# Altium footprint library SOT.PcbLib: 22 footprints (part 1 of 2)
Each footprint in its own frame and in the unit in brackets; x right, y up, seen from the top. Pads: shape width x height; smd on the part's side, far side on the other; paste and mask are expansions set on the pad; w line width, h text height; cw(c..) or ccw(c..) is an arc to the next point about the centre after c.
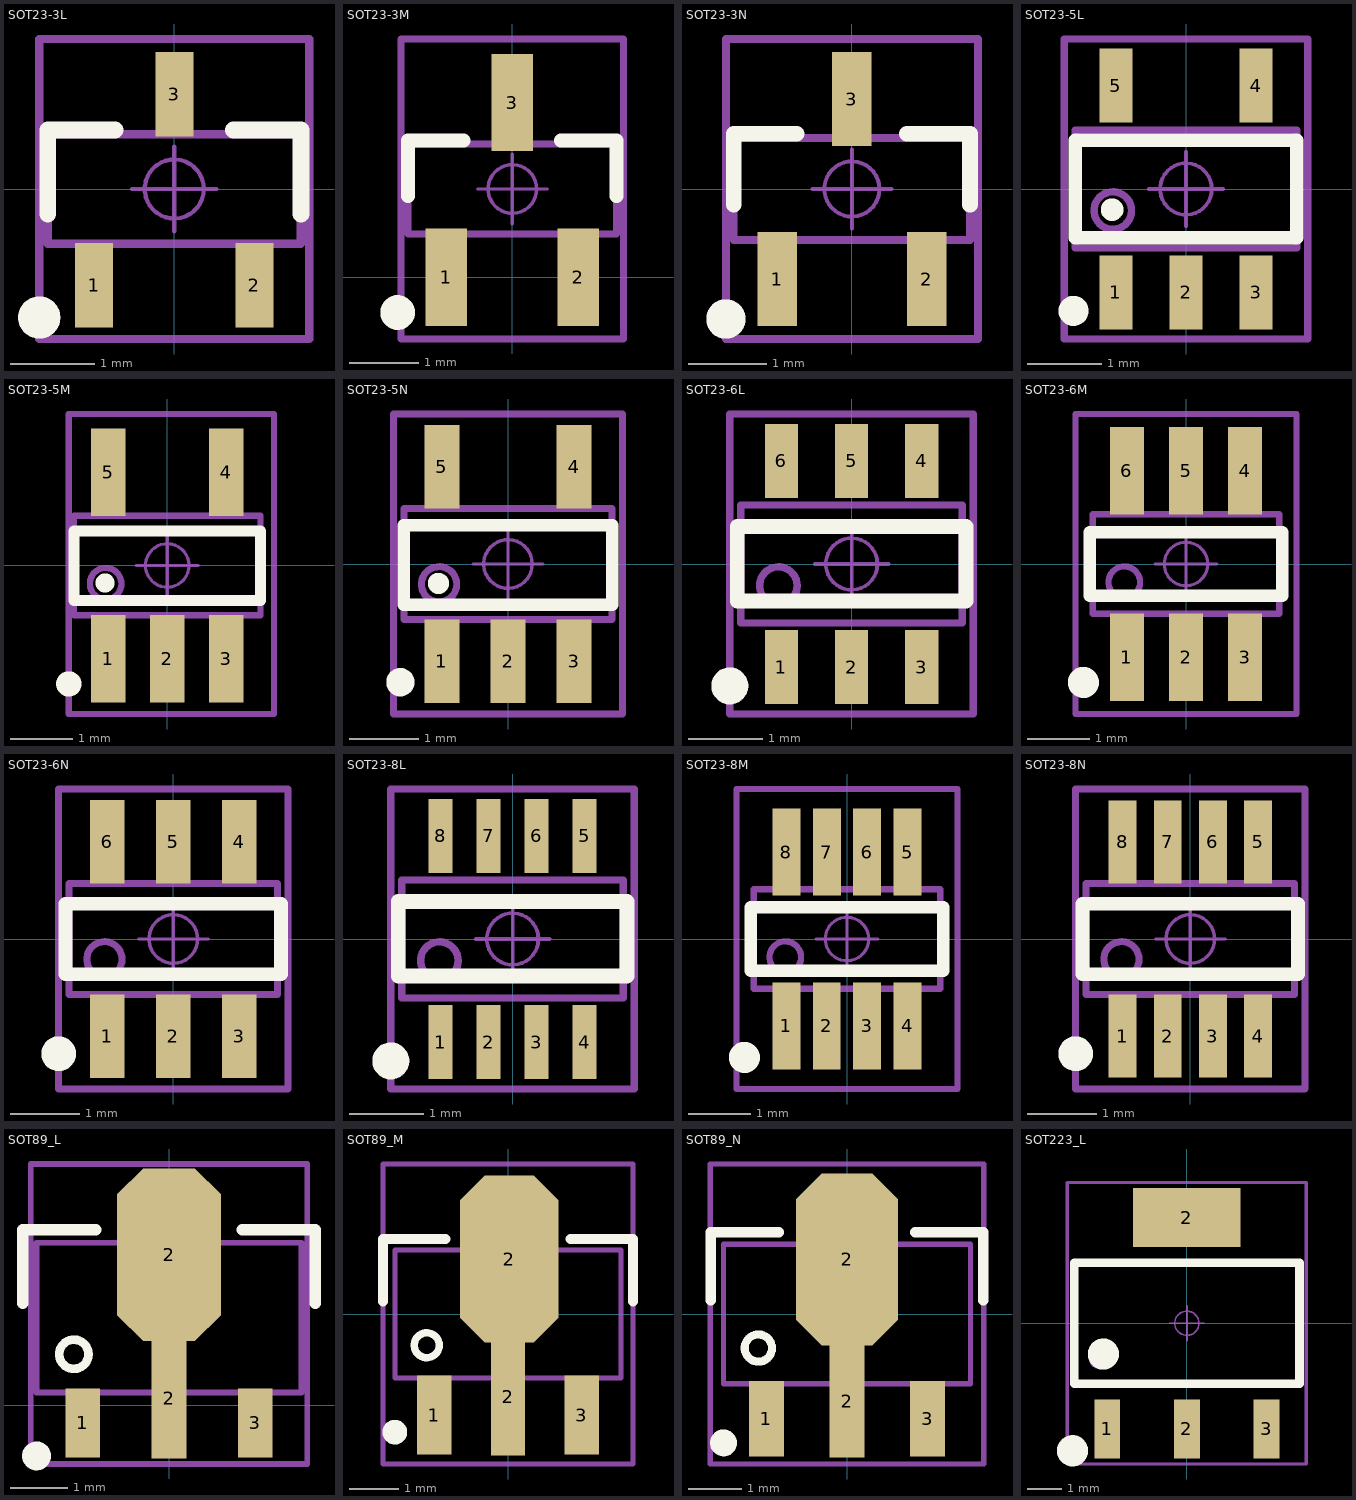
[diagram p0: the footprints below, top view; thin cyan lines are the x and y axes]

## SOT23-3L [mm] "3x1.3x1mm(长宽高)"
height 1.1
pads (3):
  rect 0.45x1 smd: 1(-0.95,-1.143) 2(0.95,-1.143) 3(0,1.125)
Top Overlay:
  circle w0.25: c-1.6,-1.524 r0.125
  lines w0.2: -1.5,-0.3 -1.5,0.7 -0.7,0.7 ; 0.7,0.7 1.5,0.7 1.5,-0.3
Mechanical 13:
  lines w0.1: -1.5,-0.65 1.5,-0.65 1.5,0.65 -1.5,0.65 -1.5,-0.65
Mechanical 15:
  circle w0.05: c0,0 r0.35
  lines w0.05: -0.5,0 0.5,0 ; 0,-0.5 0,0.5
  lines w0.1: -1.6,-1.778 1.6,-1.778 1.6,1.778 -1.6,1.778 -1.6,-1.778
3D body "SOT23-3.STEP": height 1.05, standoff 0, extent -1.5,-1.2 1.5,1.2

## SOT23-3M [mm] "3x1.3x1mm(长宽高)"
height 1.1
pads (3):
  rect 0.6x1.4 smd: 1(-0.95,0) 2(0.95,0) 3(0,2.514)
Top Overlay:
  circle w0.25: c-1.651,-0.508 r0.125
  lines w0.2: -1.5,1.17 -1.5,1.97 -0.7,1.97 ; 0.7,1.97 1.5,1.97 1.5,1.17
Mechanical 13:
  lines w0.1: -1.5,0.62 -1.5,1.92 1.5,1.92 1.5,0.62 -1.5,0.62
Mechanical 15:
  circle w0.05: c0,1.27 r0.35
  lines w0.05: -0.5,1.27 0.5,1.27 ; 0,0.77 0,1.77
  lines w0.1: -1.6,-0.889 -1.6,3.429 1.6,3.429 1.6,-0.889 -1.6,-0.889
3D body "SOT23-3.STEP": height 1.05, standoff 0, extent -1.5,0.07 1.5,2.47

## SOT23-3N [mm] "3x1.3x1mm(长宽高)"
height 1.1
pads (3):
  rect 0.5x1.2 smd: 1(-0.95,-1.143) 2(0.95,-1.143) 3(0,1.143)
Top Overlay:
  circle w0.25: c-1.6,-1.651 r0.125
  lines w0.2: -1.501,-0.2 -1.501,0.7 -0.701,0.7 ; 0.699,0.7 1.499,0.7 1.499,-0.2
Mechanical 13:
  lines w0.1: -1.5,-0.65 1.5,-0.65 1.5,0.65 -1.5,0.65 -1.5,-0.65
Mechanical 15:
  circle w0.05: c0,0 r0.35
  lines w0.05: -0.5,0 0.5,0 ; 0,-0.5 0,0.5
  lines w0.1: -1.6,-1.905 1.6,-1.905 1.6,1.905 -1.6,1.905 -1.6,-1.905
3D body "SOT23-3.STEP": height 1.05, standoff 0, extent -1.5,-1.2 1.5,1.2

## SOT23-5L [mm] "3x1.6x1.1mm(长宽高)"
pads (5):
  rect 0.45x1 smd: 1(-0.95,-1.4) 2(0,-1.4) 3(0.95,-1.4) 4(0.95,1.4) 5(-0.95,1.4)
Top Overlay:
  circle w0.254: c-1.001,-0.279 r0.025
  circle w0.254: c-1.524,-1.651 r0.076
  lines w0.178: -1.5,-0.66 1.5,-0.66 1.5,0.66 -1.5,0.66 -1.5,-0.66
Mechanical 13:
  circle w0.1: c-0.992,-0.292 r0.254
  lines w0.1: -1.5,-0.8 -1.5,0.8 1.5,0.8 1.5,-0.8 -1.5,-0.8
Mechanical 15:
  circle w0.05: c0,0 r0.35
  lines w0.05: -0.5,0 0.5,0 ; 0,-0.5 0,0.5
  lines w0.1: -1.651,-2.032 -1.651,2.032 1.651,2.032 1.651,-2.032 -1.651,-2.032
3D body "SOT23-5.STEP": height 1.15, standoff -0.03, extent -1.5,-1.403 1.5,1.403

## SOT23-5M [mm] "3x1.6x1.1mm(长宽高)"
pads (5):
  rect 0.55x1.4 smd: 1(-0.95,-1.5) 2(0,-1.5) 3(0.95,-1.5) 4(0.95,1.5) 5(-0.95,1.5)
Top Overlay:
  circle w0.254: c-1.585,-1.905 r0.076
  circle w0.254: c-1.001,-0.281 r0.025
  lines w0.178: -1.5,-0.56 1.5,-0.56 1.5,0.557 -1.5,0.557 -1.5,-0.56
Mechanical 13:
  circle w0.1: c-0.992,-0.292 r0.254
  lines w0.1: -1.5,-0.8 -1.5,0.8 1.5,0.8 1.5,-0.8 -1.5,-0.8
Mechanical 15:
  circle w0.05: c0,0 r0.35
  lines w0.05: -0.5,0 0.5,0 ; 0,-0.5 0,0.5
  lines w0.1: -1.585,-2.389 -1.585,2.437 1.717,2.437 1.717,-2.389 -1.585,-2.389
3D body "SOT23-5.STEP": height 1.15, standoff -0.03, extent -1.5,-1.403 1.5,1.403

## SOT23-5N [mm] "3x1.6x1.1mm(长宽高)"
pads (5):
  rect 0.5x1.2 smd: 1(-0.95,-1.4) 2(0,-1.4) 3(0.95,-1.4) 4(0.95,1.4) 5(-0.95,1.4)
Top Overlay:
  circle w0.254: c-1.549,-1.702 r0.076
  circle w0.254: c-1.001,-0.279 r0.025
  lines w0.178: -1.5,-0.584 -1.5,0.559 1.5,0.559 1.5,-0.584 -1.5,-0.584
Mechanical 13:
  circle w0.1: c-0.992,-0.292 r0.254
  lines w0.1: -1.5,-0.8 -1.5,0.8 1.5,0.8 1.5,-0.8 -1.5,-0.8
Mechanical 15:
  circle w0.05: c0,0 r0.35
  lines w0.05: -0.5,0 0.5,0 ; 0,-0.5 0,0.5
  lines w0.1: -1.651,-2.159 1.651,-2.159 1.651,2.159 -1.651,2.159 -1.651,-2.159
3D body "SOT23-5.STEP": height 1.15, standoff -0.03, extent -1.5,-1.403 1.5,1.403

## SOT23-6L [mm] "3x1.6x1.1mm(长宽高)"
height 1.45
pads (6):
  rect 0.45x1 smd: 1(-0.95,-1.397) 2(0,-1.397) 3(0.95,-1.397) 4(0.95,1.397) 5(0,1.397) 6(-0.95,1.397)
Top Overlay:
  circle w0.25: c-1.65,-1.651 r0.125
  lines w0.2: -1.55,-0.5 -1.55,0.508 1.55,0.508 1.55,-0.5 -1.55,-0.5
Mechanical 13:
  circle w0.1: c-0.992,-0.292 r0.254
  lines w0.1: -1.5,-0.8 1.5,-0.8 1.5,0.8 -1.5,0.8 -1.5,-0.8
Mechanical 15:
  circle w0.05: c0,0 r0.35
  lines w0.05: -0.5,0 0.5,0 ; 0,-0.5 0,0.5
  lines w0.1: -1.65,-2.032 1.65,-2.032 1.65,2.032 -1.65,2.032 -1.65,-2.032
3D body "SOT23-6.STEP": height 1.15, standoff -0.03, extent -1.5,-1.404 1.5,1.403

## SOT23-6M [mm] "3x1.6x1.1mm(长宽高)"
height 1.45
pads (6):
  rect 0.55x1.4 smd: 1(-0.95,-1.5) 2(0,-1.5) 3(0.95,-1.5) 4(0.95,1.5) 5(0,1.5) 6(-0.95,1.5)
Top Overlay:
  circle w0.25: c-1.651,-1.905 r0.125
  lines w0.2: -1.55,-0.508 -1.55,0.508 1.55,0.508 1.55,-0.508 -1.55,-0.508
Mechanical 13:
  circle w0.1: c-0.992,-0.292 r0.254
  lines w0.1: -1.5,-0.8 1.5,-0.8 1.5,0.8 -1.5,0.8 -1.5,-0.8
Mechanical 15:
  circle w0.05: c0,0 r0.35
  lines w0.05: -0.5,0 0.5,0 ; 0,-0.5 0,0.5
  lines w0.1: -1.778,-2.413 1.778,-2.413 1.778,2.413 -1.778,2.413 -1.778,-2.413
3D body "SOT23-6.STEP": height 1.15, standoff -0.03, extent -1.5,-1.403 1.5,1.403

## SOT23-6N [mm] "3x1.6x1.1mm(长宽高)"
height 1.45
pads (6):
  rect 0.5x1.2 smd: 1(-0.95,-1.4) 2(0,-1.4) 3(0.95,-1.4) 4(0.95,1.4) 5(0,1.4) 6(-0.95,1.4)
Top Overlay:
  circle w0.25: c-1.651,-1.651 r0.125
  lines w0.2: -1.55,-0.508 1.55,-0.508 1.55,0.508 -1.55,0.508 -1.55,-0.508
Mechanical 13:
  circle w0.1: c-0.992,-0.292 r0.254
  lines w0.1: -1.5,-0.8 -1.5,0.8 1.5,0.8 1.5,-0.8 -1.5,-0.8
Mechanical 15:
  circle w0.05: c0,0 r0.35
  lines w0.05: -0.5,0 0.5,0 ; 0,-0.5 0,0.5
  lines w0.1: -1.651,-2.159 -1.651,2.159 1.651,2.159 1.651,-2.159 -1.651,-2.159
3D body "SOT23-6.STEP": height 1.15, standoff -0.03, extent -1.5,-1.403 1.5,1.403

## SOT23-8L [mm] "3x1.6x1.1mm(长宽高)"
height 1.45
pads (8):
  rect 0.325x1 smd: 1(-0.975,-1.397) 2(-0.325,-1.397) 3(0.325,-1.397) 4(0.975,-1.397) 5(0.975,1.397) 6(0.325,1.397) 7(-0.325,1.397) 8(-0.975,1.397)
Top Overlay:
  circle w0.25: c-1.65,-1.651 r0.125
  lines w0.2: -1.55,-0.5 -1.55,0.508 1.55,0.508 1.55,-0.5 -1.55,-0.5
Mechanical 13:
  circle w0.1: c-0.992,-0.292 r0.254
  lines w0.1: -1.5,-0.8 1.5,-0.8 1.5,0.8 -1.5,0.8 -1.5,-0.8
Mechanical 15:
  circle w0.05: c0,0 r0.35
  lines w0.05: -0.5,0 0.5,0 ; 0,-0.5 0,0.5
  lines w0.1: -1.65,-2.032 1.65,-2.032 1.65,2.032 -1.65,2.032 -1.65,-2.032
3D body "SOT23-8.STEP": height 1.15, standoff 0, extent -1.5,-1.403 1.5,1.403

## SOT23-8M [mm] "3x1.6x1.1mm(长宽高)"
height 1.45
pads (8):
  rect 0.45x1.4 smd: 1(-0.975,-1.397) 3(0.325,-1.397) 4(0.975,-1.397) 5(0.975,1.397) 6(0.325,1.397) 7(-0.325,1.397) 8(-0.975,1.397)
  rect 0.44x1.4 smd: 2(-0.325,-1.397)
Top Overlay:
  circle w0.25: c-1.651,-1.905 r0.125
  lines w0.2: -1.55,-0.508 1.55,-0.508 1.55,0.508 -1.55,0.508 -1.55,-0.508
Mechanical 13:
  circle w0.1: c-0.992,-0.292 r0.254
  lines w0.1: -1.5,-0.8 -1.5,0.8 1.5,0.8 1.5,-0.8 -1.5,-0.8
Mechanical 15:
  circle w0.05: c0,0 r0.35
  lines w0.05: -0.5,0 0.5,0 ; 0,-0.5 0,0.5
  lines w0.1: -1.778,-2.413 -1.778,2.413 1.778,2.413 1.778,-2.413 -1.778,-2.413
3D body "SOT23-8.STEP": height 1.15, standoff 0, extent -1.5,-1.403 1.5,1.403

## SOT23-8N [mm] "3x1.6x1.1mm(长宽高)"
height 1.45
pads (8):
  rect 0.4x1.2 smd: 1(-0.975,-1.397) 2(-0.325,-1.397) 3(0.325,-1.397) 4(0.975,-1.397) 5(0.975,1.397) 6(0.325,1.397) 7(-0.325,1.397) 8(-0.975,1.397)
Top Overlay:
  circle w0.25: c-1.651,-1.651 r0.125
  lines w0.2: -1.55,-0.508 -1.55,0.508 1.55,0.508 1.55,-0.508 -1.55,-0.508
Mechanical 13:
  circle w0.1: c-0.992,-0.292 r0.254
  lines w0.1: -1.5,-0.8 1.5,-0.8 1.5,0.8 -1.5,0.8 -1.5,-0.8
Mechanical 15:
  circle w0.05: c0,0 r0.35
  lines w0.05: -0.5,0 0.5,0 ; 0,-0.5 0,0.5
  lines w0.1: -1.651,-2.159 1.651,-2.159 1.651,2.159 -1.651,2.159 -1.651,-2.159
3D body "SOT23-8.STEP": height 1.15, standoff 0, extent -1.5,-1.403 1.5,1.403

## SOT89_L [mm] "4.6x4.3x1.6mm(长宽高)"
height 1.6
pads (4):
  rect 0.6x1.2 smd: 1(-1.5,-0.303) 3(1.5,-0.303)
  rect 0.6x2.1 smd: 2(0,0.127)
  oct 1.8x3 smd: 2(0,2.616)
Top Overlay:
  circle w0.25: c-2.3,-0.876 r0.125
  circle w0.15: c-1.651,0.889 r0.254
  lines w0.2: -2.54,1.778 -2.54,3.048 -1.27,3.048 ; 1.27,3.048 2.54,3.048 2.54,1.778
Mechanical 13:
  circle w0.1: c-1.651,0.889 r0.25
  lines w0.1: -2.3,0.224 2.3,0.224 2.3,2.824 -2.3,2.824 -2.3,0.224
Mechanical 15:
  circle w0.05: c0,1.524 r0.35
  lines w0.05: -0.5,1.524 0.5,1.524 ; 0,1.024 0,2.024
  lines w0.1: -2.4,-1.016 2.4,-1.016 2.4,4.191 -2.4,4.191 -2.4,-1.016
3D body "SOT89.STEP": height 1.6, standoff 0.04, extent -2.3,-0.876 2.3,3.424

## SOT89_M [mm] "4.6x4.3x1.6mm(长宽高)"
height 1.6
pads (4):
  rect 0.7x1.6 smd: 1(-1.5,-2.054) 3(1.5,-2.054)
  rect 0.7x2.4 smd: 2(0,-1.676)
  oct 2x3.4 smd: 2(0.025,1.118)
Top Overlay:
  circle w0.15: c-1.651,-0.635 r0.254
  circle w0.25: c-2.3,-2.4 r0.125
  lines w0.2: -2.54,0.254 -2.54,1.524 -1.27,1.524 ; 1.27,1.524 2.54,1.524 2.54,0.254
Mechanical 13:
  circle w0.1: c-1.651,-0.635 r0.25
  lines w0.1: -2.3,-1.3 -2.3,1.3 2.3,1.3 2.3,-1.3 -2.3,-1.3
Mechanical 15:
  circle w0.05: c0,0 r0.35
  lines w0.05: -0.5,0 0.5,0 ; 0,-0.5 0,0.5
  lines w0.1: -2.54,-3.048 2.54,-3.048 2.54,3.048 -2.54,3.048 -2.54,-3.048
3D body "SOT89.STEP": height 1.6, standoff 0.04, extent -2.3,-2.4 2.3,1.9

## SOT89_N [mm] "4.6x4.3x1.6mm(长宽高)"
height 1.6
pads (4):
  rect 0.65x1.4 smd: 1(-1.5,-1.952) 3(1.5,-1.952)
  rect 0.65x2.1 smd: 2(0,-1.626)
  oct 1.9x3.2 smd: 2(0,1.016)
Top Overlay:
  circle w0.25: c-2.3,-2.4 r0.125
  circle w0.15: c-1.651,-0.635 r0.254
  lines w0.2: -2.54,0.254 -2.54,1.524 -1.27,1.524 ; 1.27,1.524 2.54,1.524 2.54,0.254
Mechanical 13:
  circle w0.1: c-1.651,-0.635 r0.25
  lines w0.1: -2.3,-1.3 2.3,-1.3 2.3,1.3 -2.3,1.3 -2.3,-1.3
Mechanical 15:
  circle w0.05: c0,0 r0.35
  lines w0.05: -0.5,0 0.5,0 ; 0,-0.5 0,0.5
  lines w0.1: -2.55,-2.794 -2.55,2.794 2.55,2.794 2.55,-2.794 -2.55,-2.794
3D body "SOT89.STEP": height 1.6, standoff 0.04, extent -2.3,-2.4 2.3,1.9

## SOT223_L [mm] "6.4x7x1.6mm(长宽高)"
height 1.7
pads (4):
  rect 0.75x1.7 smd: 1(-2.3,-3.048) 2(0,-3.048) 3(2.3,-3.048)
  rect 3.1x1.7 smd: 2(0,3.048)
Top Overlay:
  circle w0.5: c-3.302,-3.683 r0.2
  circle w0.5: c-2.413,-0.889 r0.2
  lines w0.25: -3.25,-1.75 3.25,-1.75 3.25,1.75 -3.25,1.75 -3.25,-1.75
Mechanical 13:
  circle w0.1: c-2.536,-1.016 r0.25
  lines w0.1: -3.25,-1.75 3.25,-1.75 3.25,1.75 -3.25,1.75 -3.25,-1.75
Mechanical 15:
  circle w0.05: c0,0 r0.35
  lines w0.05: -0.5,0 0.5,0 ; 0,-0.5 0,0.5
  lines w0.1: -3.45,-4.064 3.45,-4.064 3.45,4.064 -3.45,4.064 -3.45,-4.064
3D body "SOT223.STEP": height 1.65, standoff -0.02, extent -3.25,-3.508 3.25,3.508